# Altium integrated library STM32F429I-DISC1.IntLib: 1 symbol
Pins are listed as number, name and electrical type; pins without a type are passive.

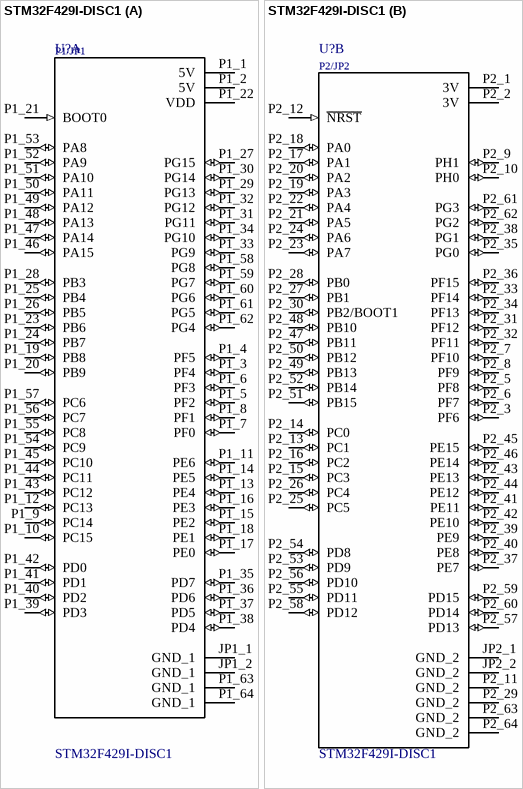
[diagram p0: symbol STM32F429I-DISC1]

## STM32F429I-DISC1
designator U?
/ STM32F429 Discovery STM32F4 ARMÂ® CortexÂ®-M4 MCU 32-Bit Embedded Evaluation Board /; MF: STMicroelectronics; Package: SOIC-14 STMicroelectronics; Availability: Unavailable; MP: STM32F429I-DISC1; SnapEDA_Link: https://www.snapeda.com/parts/STM32F429I-DISC1/STMicroelectronics/view-part/504905/?ref=snap; Price: None; Value: *
footprint *MODULE_STM32F429I-DISC1_STM32F429I-DISC1(Primary)
part A pins: JP1_1 GND_1 (power), JP1_2 GND_1 (power), P1_1 5V (power), P1_2 5V (power), P1_3 PF4 (io), P1_4 PF5 (io), P1_5 PF2 (io), P1_6 PF3 (io), P1_7 PF0 (io), P1_8 PF1 (io), P1_9 PC14 (io), P1_10 PC15 (io), P1_11 PE6 (io), P1_12 PC13 (io), P1_13 PE4 (io), P1_14 PE5 (io), P1_15 PE2 (io), P1_16 PE3 (io), P1_17 PE0 (io), P1_18 PE1 (io), P1_19 PB8 (io), P1_20 PB9 (io), P1_21 BOOT0 (in), P1_22 VDD (power), P1_23 PB6 (io), P1_24 PB7 (io), P1_25 PB4 (io), P1_26 PB5 (io), P1_27 PG15 (io), P1_28 PB3 (io), P1_29 PG13 (io), P1_30 PG14 (io), P1_31 PG11 (io), P1_32 PG12 (io), P1_33 PG9 (io), P1_34 PG10 (io), P1_35 PD7 (io), P1_36 PD6 (io), P1_37 PD5 (io), P1_38 PD4 (io), P1_39 PD3 (io), P1_40 PD2 (io), P1_41 PD1 (io), P1_42 PD0 (io), P1_43 PC12 (io), P1_44 PC11 (io), P1_45 PC10 (io), P1_46 PA15 (io), P1_47 PA14 (io), P1_48 PA13 (io), P1_49 PA12 (io), P1_50 PA11 (io), P1_51 PA10 (io), P1_52 PA9 (io), P1_53 PA8 (io), P1_54 PC9 (io), P1_55 PC8 (io), P1_56 PC7 (io), P1_57 PC6 (io), P1_58 PG8 (io), P1_59 PG7 (io), P1_60 PG6 (io), P1_61 PG5 (io), P1_62 PG4 (io), P1_63 GND_1 (power), P1_64 GND_1 (power)
part B pins: JP2_1 GND_2 (power), JP2_2 GND_2 (power), P2_1 3V (power), P2_2 3V (power), P2_3 PF6 (io), P2_5 PF8 (io), P2_6 PF7 (io), P2_7 PF10 (io), P2_8 PF9 (io), P2_9 PH1 (io), P2_10 PH0 (io), P2_11 GND_2 (power), P2_12 ~{NRST} (in), P2_13 PC1 (io), P2_14 PC0 (io), P2_15 PC3 (io), P2_16 PC2 (io), P2_17 PA1 (io), P2_18 PA0 (io), P2_19 PA3 (io), P2_20 PA2 (io), P2_21 PA5 (io), P2_22 PA4 (io), P2_23 PA7 (io), P2_24 PA6 (io), P2_25 PC5 (io), P2_26 PC4 (io), P2_27 PB1 (io), P2_28 PB0 (io), P2_29 GND_2 (power), P2_30 PB2/BOOT1 (io), P2_31 PF12 (io), P2_32 PF11 (io), P2_33 PF14 (io), P2_34 PF13 (io), P2_35 PG0 (io), P2_36 PF15 (io), P2_37 PE7 (io), P2_38 PG1 (io), P2_39 PE9 (io), P2_40 PE8 (io), P2_41 PE11 (io), P2_42 PE10 (io), P2_43 PE13 (io), P2_44 PE12 (io), P2_45 PE15 (io), P2_46 PE14 (io), P2_47 PB11 (io), P2_48 PB10 (io), P2_49 PB13 (io), P2_50 PB12 (io), P2_51 PB15 (io), P2_52 PB14 (io), P2_53 PD9 (io), P2_54 PD8 (io), P2_55 PD11 (io), P2_56 PD10 (io), P2_57 PD13 (io), P2_58 PD12 (io), P2_59 PD15 (io), P2_60 PD14 (io), P2_61 PG3 (io), P2_62 PG2 (io), P2_63 GND_2 (power), P2_64 GND_2 (power)
part A text: P1/JP1
part B text: P2/JP2